# Altium integrated library TI Data Converters Analog to Digital Converter.IntLib: 2198 symbols (part 142 of 164)
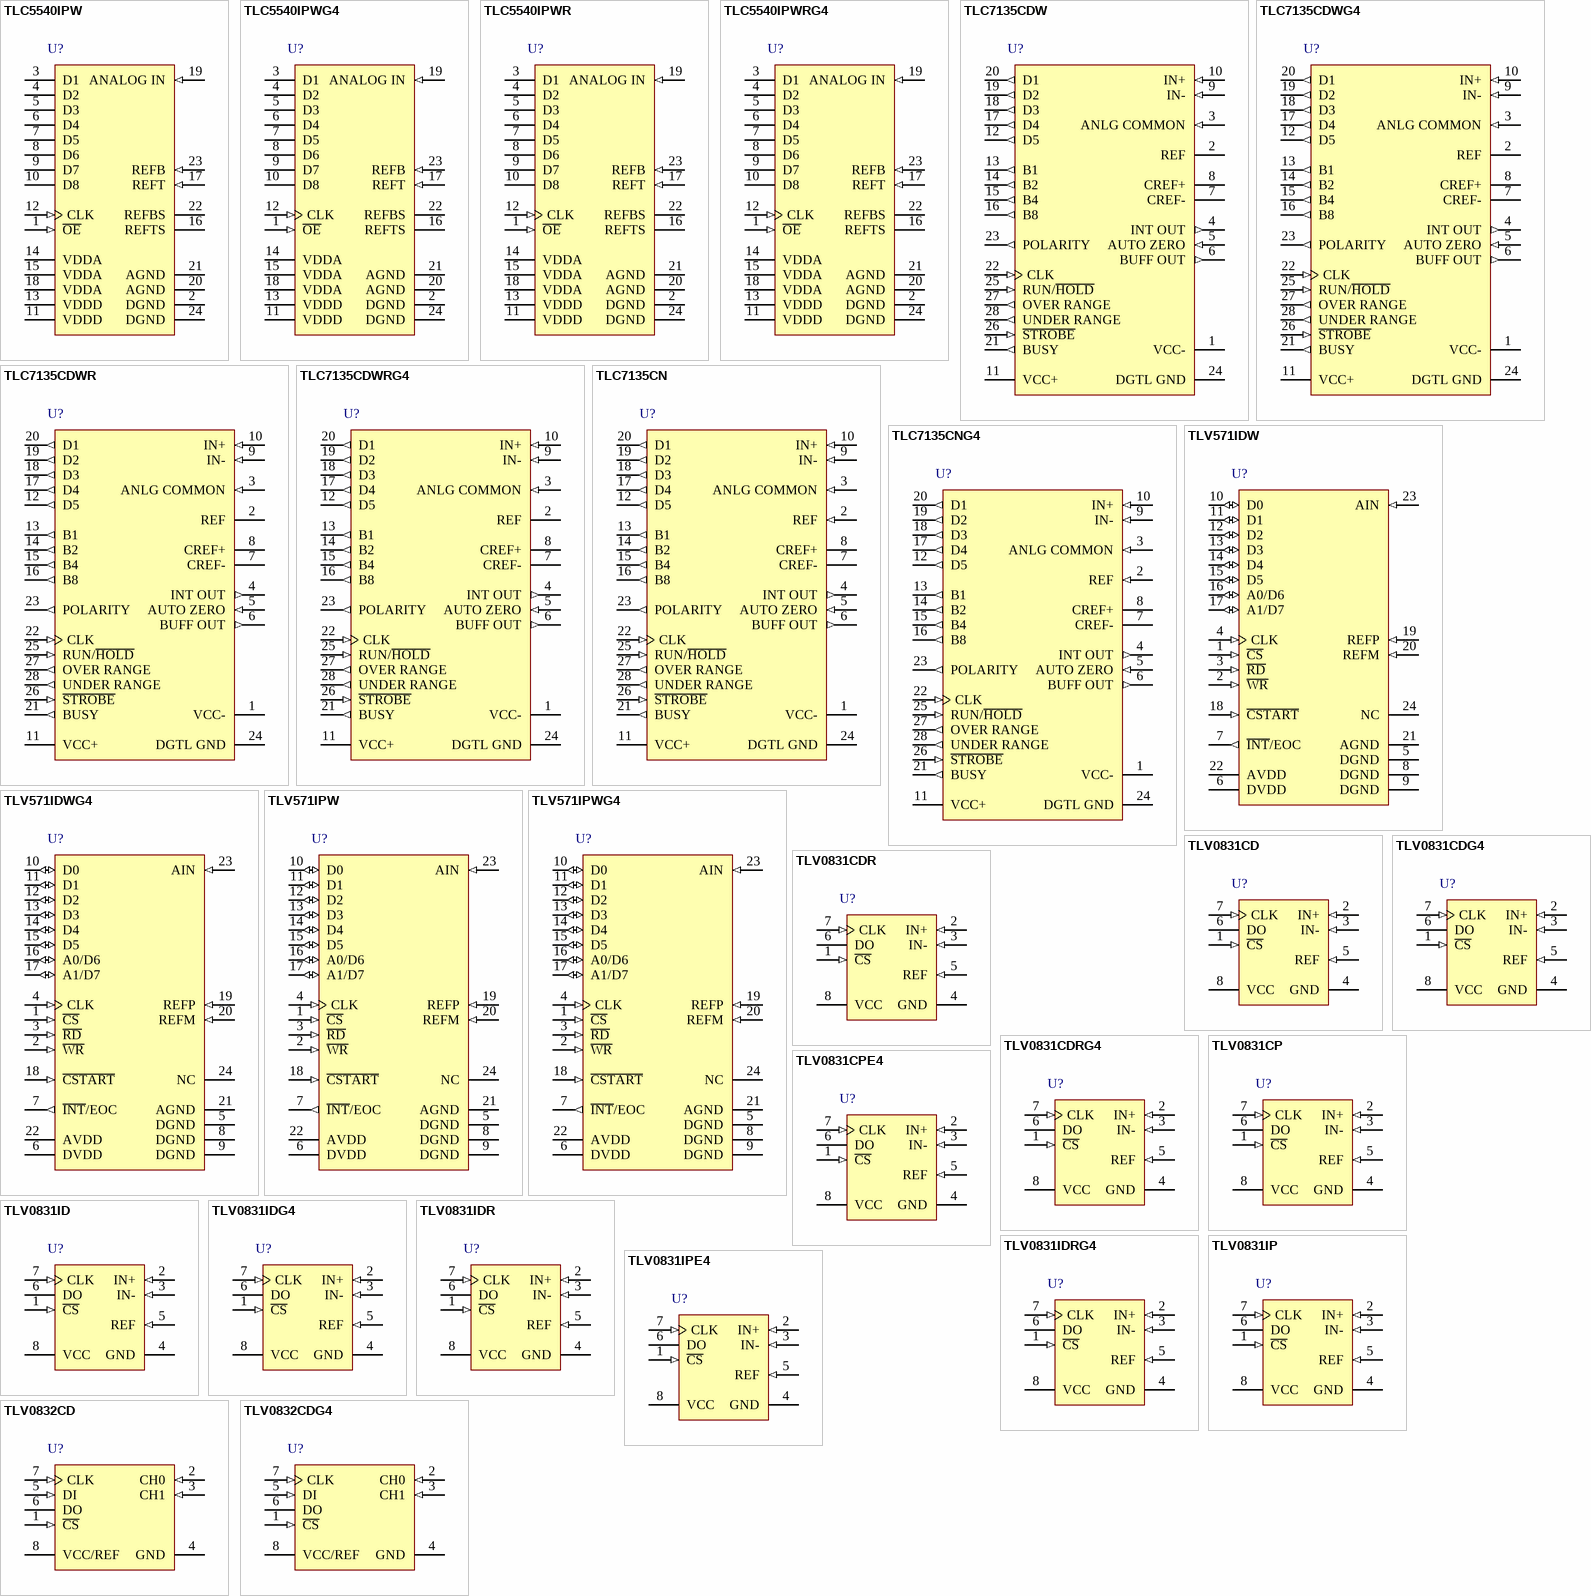
[diagram p267: symbols TLC5540IPW to TLV0832CDG4]

## TLC5540IPWG4
designator U?
8-Bit, 40 MSPS ADC Single Channel, Internal S&H, Low Power, -40 to 85 degC, 24-pin SOP (PW24), Green (RoHS & no Sb/Br); Manufacturer: Texas Instruments; PartNumber: TLC5540IPWG4; # Input Channels: 1; Analog Voltage AV/DD(Max)(V): 5.25; Analog Voltage AV/DD(Min)(V): 4.75; Architecture: Flash; ENOB(Bits): 6.8; Interface: Parallel CMOS; Resolution(Bits): 8; Sample Rate (max)(SPS): 40M; SFDR(dB): 42; SNR(dB): 44; SubFamily: High Speed ADC (>10MSPS); DatasheetVersion: SLAS105D; PackageVersion: 4040064-6/G, 02/2011; PackageReference: PW24; PackageDescription: 24-Pin Plastic Small Outline, Body 7.8 x 4.4 mm, Pitch 0.65 mm; Supplier 1: Digi-Key; Supplier Part Number 1: 296-13366-5-ND; Digital Supply(Max)(V): 5.25; Digital Supply(Min)(V): 4.75; Eco-Plan: Green (RoHS & no Sb/Br); INL(Max)(+/-LSB): 1; Mounting Technology: Surface Mount; Code_JEDEC: MO-153; ComponentLink1Description: Manufacturer URL; ComponentLink1URL: http://www.ti.com/; ComponentLink2Description: Datasheet; ComponentLink2URL: http://www.ti.com/general/docs/lit/getliterature.tsp?genericPartNumber=TLC5540&fileType=pdf; ComponentLink3Description: Package Specification; ComponentLink3URL: http://www.ti.com/litv/pdf/mpds363
footprint TI-PW24_N (SOP, 24-Leads, Body 7.8x4.4mm, Pitch 0.65mm, IPC Medium Density)
footprint TI-PW24_L (SOP, 24-Leads, Body 7.8x4.4mm, Pitch 0.65mm, IPC High Density)
footprint TI-PW24_M (SOP, 24-Leads, Body 7.8x4.4mm, Pitch 0.65mm, IPC Low Density)
pins: 1 ~{OE} (in) "Output enable. When O\E\ = low, data is enabled. When O\E\ = high, D1-D8 is in high-impedance state.", 2 DGND (power) "Digital ground", 3 D1 (hiz) "Digital data out. D1 = LSB", 4 D2 (hiz) "Digital data out.", 5 D3 (hiz) "Digital data out.", 6 D4 (hiz) "Digital data out.", 7 D5 (hiz) "Digital data out.", 8 D6 (hiz) "Digital data out.", 9 D7 (hiz) "Digital data out.", 10 D8 (hiz) "Digital data out. D8=MSB", 11 VDDD (power) "Digital supply voltage", 12 CLK (in) "Clock input", 13 VDDD (power) "Digital supply voltage", 14 VDDA (power) "Analog supply voltage", 15 VDDA (power) "Analog supply voltage", 16 REFTS "Reference voltage (top).", 17 REFT (in) "Reference voltage in top", 18 VDDA (power) "Analog supply voltage", 19 ANALOG IN (in) "Analog input", 20 AGND (power) "Analog ground", 21 AGND (power) "Analog ground", 22 REFBS "Reference voltage (bottom).", 23 REFB (in) "Reference voltage in bottom", 24 DGND (power) "Digital ground"

## TLC5540IPWR
designator U?
8-Bit, 40 MSPS ADC Single Channel, Internal S&H, Low Power, -40 to 85 degC, 24-pin SOP (PW24), Green (RoHS & no Sb/Br); Manufacturer: Texas Instruments; PartNumber: TLC5540IPWR; # Input Channels: 1; Analog Voltage AV/DD(Max)(V): 5.25; Analog Voltage AV/DD(Min)(V): 4.75; Architecture: Flash; ENOB(Bits): 6.8; Interface: Parallel CMOS; Resolution(Bits): 8; Sample Rate (max)(SPS): 40M; SFDR(dB): 42; SNR(dB): 44; SubFamily: High Speed ADC (>10MSPS); DatasheetVersion: SLAS105D; PackageVersion: 4040064-6/G, 02/2011; PackageReference: PW24; PackageDescription: 24-Pin Plastic Small Outline, Body 7.8 x 4.4 mm, Pitch 0.65 mm; Supplier 1: Digi-Key; Supplier Part Number 1: TLV2548QDWG4-ND; Digital Supply(Max)(V): 5.25; Digital Supply(Min)(V): 4.75; Eco-Plan: Green (RoHS & no Sb/Br); INL(Max)(+/-LSB): 1; Mounting Technology: Surface Mount; Code_JEDEC: MO-153; ComponentLink1Description: Manufacturer URL; ComponentLink1URL: http://www.ti.com/; ComponentLink2Description: Datasheet; ComponentLink2URL: http://www.ti.com/general/docs/lit/getliterature.tsp?genericPartNumber=TLC5540&fileType=pdf; ComponentLink3Description: Package Specification; ComponentLink3URL: http://www.ti.com/litv/pdf/mpds363
footprint TI-PW24_N (SOP, 24-Leads, Body 7.8x4.4mm, Pitch 0.65mm, IPC Medium Density)
footprint TI-PW24_L (SOP, 24-Leads, Body 7.8x4.4mm, Pitch 0.65mm, IPC High Density)
footprint TI-PW24_M (SOP, 24-Leads, Body 7.8x4.4mm, Pitch 0.65mm, IPC Low Density)
pins: 1 ~{OE} (in) "Output enable. When O\E\ = low, data is enabled. When O\E\ = high, D1-D8 is in high-impedance state.", 2 DGND (power) "Digital ground", 3 D1 (hiz) "Digital data out. D1 = LSB", 4 D2 (hiz) "Digital data out.", 5 D3 (hiz) "Digital data out.", 6 D4 (hiz) "Digital data out.", 7 D5 (hiz) "Digital data out.", 8 D6 (hiz) "Digital data out.", 9 D7 (hiz) "Digital data out.", 10 D8 (hiz) "Digital data out. D8=MSB", 11 VDDD (power) "Digital supply voltage", 12 CLK (in) "Clock input", 13 VDDD (power) "Digital supply voltage", 14 VDDA (power) "Analog supply voltage", 15 VDDA (power) "Analog supply voltage", 16 REFTS "Reference voltage (top).", 17 REFT (in) "Reference voltage in top", 18 VDDA (power) "Analog supply voltage", 19 ANALOG IN (in) "Analog input", 20 AGND (power) "Analog ground", 21 AGND (power) "Analog ground", 22 REFBS "Reference voltage (bottom).", 23 REFB (in) "Reference voltage in bottom", 24 DGND (power) "Digital ground"

## TLC5540IPWRG4
designator U?
8-Bit, 40 MSPS ADC Single Channel, Internal S&H, Low Power, -40 to 85 degC, 24-pin SOP (PW24), Green (RoHS & no Sb/Br); Manufacturer: Texas Instruments; PartNumber: TLC5540IPWRG4; # Input Channels: 1; Analog Voltage AV/DD(Max)(V): 5.25; Analog Voltage AV/DD(Min)(V): 4.75; Architecture: Flash; ENOB(Bits): 6.8; Interface: Parallel CMOS; Resolution(Bits): 8; Sample Rate (max)(SPS): 40M; SFDR(dB): 42; SNR(dB): 44; SubFamily: High Speed ADC (>10MSPS); DatasheetVersion: SLAS105D; PackageVersion: 4040064-6/G, 02/2011; PackageReference: PW24; PackageDescription: 24-Pin Plastic Small Outline, Body 7.8 x 4.4 mm, Pitch 0.65 mm; Supplier 1: Digi-Key; Supplier Part Number 1: TLV2548QDWR-ND; Digital Supply(Max)(V): 5.25; Digital Supply(Min)(V): 4.75; Eco-Plan: Green (RoHS & no Sb/Br); INL(Max)(+/-LSB): 1; Mounting Technology: Surface Mount; Code_JEDEC: MO-153; ComponentLink1Description: Manufacturer URL; ComponentLink1URL: http://www.ti.com/; ComponentLink2Description: Datasheet; ComponentLink2URL: http://www.ti.com/general/docs/lit/getliterature.tsp?genericPartNumber=TLC5540&fileType=pdf; ComponentLink3Description: Package Specification; ComponentLink3URL: http://www.ti.com/litv/pdf/mpds363
footprint TI-PW24_N (SOP, 24-Leads, Body 7.8x4.4mm, Pitch 0.65mm, IPC Medium Density)
footprint TI-PW24_L (SOP, 24-Leads, Body 7.8x4.4mm, Pitch 0.65mm, IPC High Density)
footprint TI-PW24_M (SOP, 24-Leads, Body 7.8x4.4mm, Pitch 0.65mm, IPC Low Density)
pins: 1 ~{OE} (in) "Output enable. When O\E\ = low, data is enabled. When O\E\ = high, D1-D8 is in high-impedance state.", 2 DGND (power) "Digital ground", 3 D1 (hiz) "Digital data out. D1 = LSB", 4 D2 (hiz) "Digital data out.", 5 D3 (hiz) "Digital data out.", 6 D4 (hiz) "Digital data out.", 7 D5 (hiz) "Digital data out.", 8 D6 (hiz) "Digital data out.", 9 D7 (hiz) "Digital data out.", 10 D8 (hiz) "Digital data out. D8=MSB", 11 VDDD (power) "Digital supply voltage", 12 CLK (in) "Clock input", 13 VDDD (power) "Digital supply voltage", 14 VDDA (power) "Analog supply voltage", 15 VDDA (power) "Analog supply voltage", 16 REFTS "Reference voltage (top).", 17 REFT (in) "Reference voltage in top", 18 VDDA (power) "Analog supply voltage", 19 ANALOG IN (in) "Analog input", 20 AGND (power) "Analog ground", 21 AGND (power) "Analog ground", 22 REFBS "Reference voltage (bottom).", 23 REFB (in) "Reference voltage in bottom", 24 DGND (power) "Digital ground"

## TLC7135CDW
designator U?
4 1/2-Digit, 0.003 kSPS ADC, Muxed BCD Output, True Differential Input, 1 Channel, 0 to 70 degC, 28-pin SOIC (DW28), Green (RoHS & no Sb/Br); Manufacturer: Texas Instruments; PartNumber: TLC7135CDW; # Input Channels: 1; Analog Voltage AV/DD(Max)(V): 6; Analog Voltage AV/DD(Min)(V): 4; Architecture: Dual-Slope; INL(Max)(+/-LSB): 0.5; Interface: Parallel CMOS; Resolution(Bits): 14; Sample Rate (max)(SPS): 3K; SubFamily: Low Power, 8-Bit, Dual 1.5 GSPS or Single 3.0 GSPS A/D Converter; DatasheetVersion: SLAS074D; PackageVersion: 4040000-6/G, 01/2011; PackageReference: DW28; PackageDescription: 28-Pin Plastic Small Outline, Body 17.90 x 7.50 mm, Pitch 1.27 mm; Supplier 1: Digi-Key; Supplier Part Number 1: 296-29419-2-ND; Digital Supply(Max)(V): 6; Digital Supply(Min)(V): 4; Eco-Plan: Green (RoHS & no Sb/Br); Mounting Technology: Surface Mount; Code_JEDEC: MS-013; ComponentLink1Description: Manufacturer URL; ComponentLink1URL: http://www.ti.com/; ComponentLink2Description: Datasheet; ComponentLink2URL: http://www.ti.com/general/docs/lit/getliterature.tsp?genericPartNumber=TLC7135&fileType=pdf; ComponentLink3Description: Package Specification; ComponentLink3URL: http://www.ti.com/lit/ml/mpds175a/mpds175a.pdf
footprint TI-DW28_N (SOIC, 28-Leads, Body 17.9x7.5mm, Pitch 1.27mm, IPC Medium Density)
footprint TI-DW28_L (SOIC, 28-Leads, Body 17.9x7.5mm, Pitch 1.27mm, IPC High Density)
footprint TI-DW28_M (SOIC, 28-Leads, Body 17.9x7.5mm, Pitch 1.27mm, IPC Low Density)
pins: 1 VCC- (power) "The ICL7135C and TLC7135C are designed to work with +/-5-V power supplies. However, 5-V operation is possible when the input signal does not vary more than +/-1.5 V from midsupply.", 2 REF "The reference voltage is positive with respect to analog common. The accuracy of the conversion result is dependent upon the quality of the reference. Therefore, to obtain a high accuracy conversion, a high quality reference (See Datasheet)", 3 ANLG COMMON (in) "Analog common (ANLG COMMON) is connected to the internal IN- during the auto-zero, deintegrate, and zero integrator phases. When IN- is connected to a voltage that is different from analog common during the signa(See Datasheet)", 4 INT OUT (out), 5 AUTO ZERO (in), 6 BUFF OUT (out), 7 CREF-, 8 CREF+, 9 IN- (in), 10 IN+ (in), 11 VCC+ (power) "The ICL7135C and TLC7135C are designed to work with +/-5-V power supplies. However, 5-V operation is possible when the input signal does not vary more than +/-1.5 V from midsupply.", 12 D5 (out) "Each digit-drive output (D1 through D5) sequentially goes high for 200 clock pulses. This sequential process is continuous unless an over-range occurs. When an over-range occurs, all of the digit-drive outputs are blanked (See Datasheet)", 13 B1 (out) "The BCD bits (B1, B2, B4 and B8) for a given digit are sequentially activated on these outputs. Simultaneously, the appropriate digit-drive line for the given digit is activated.", 14 B2 (out) "The BCD bits (B1, B2, B4 and B8) for a given digit are sequentially activated on these outputs. Simultaneously, the appropriate digit-drive line for the given digit is activated.", 15 B4 (out) "The BCD bits (B1, B2, B4 and B8) for a given digit are sequentially activated on these outputs. Simultaneously, the appropriate digit-drive line for the given digit is activated.", 16 B8 (out) "The BCD bits (B1, B2, B4 and B8) for a given digit are sequentially activated on these outputs. Simultaneously, the appropriate digit-drive line for the given digit is activated.", 17 D4 (out) "Each digit-drive output (D1 through D5) sequentially goes high for 200 clock pulses. This sequential process is continuous unless an over-range occurs. When an over-range occurs, all of the digit-drive outputs are blanked (See Datasheet)", 18 D3 (out) "Each digit-drive output (D1 through D5) sequentially goes high for 200 clock pulses. This sequential process is continuous unless an over-range occurs. When an over-range occurs, all of the digit-drive outputs are blanked (See Datasheet)", 19 D2 (out) "Each digit-drive output (D1 through D5) sequentially goes high for 200 clock pulses. This sequential process is continuous unless an over-range occurs. When an over-range occurs, all of the digit-drive outputs are blanked (See Datasheet)", 20 D1 (out) "Each digit-drive output (D1 through D5) sequentially goes high for 200 clock pulses. This sequential process is continuous unless an over-range occurs. When an over-range occurs, all of the digit-drive outputs are blanked (See Datasheet)", 21 BUSY (out) "The BUSY output goes high at the beginning of the signal integrate phase. BUSY remains high until the first clock pulse after zero crossing or at the end of the measurement cycle when an over-range condition occurs. It is (See Datasheet)", 22 CLK (in), 23 POLARITY (out) "The POLARITY output is high for a positive input signal and updates at the beginning of each deintegrate phase. The polarity output is valid for all inputs including +/-0 and OVER RANGE signals.", 24 DGTL GND (power) "For high-accuracy applications, ground loops must be avoided. Return currents from digital circuits must not be sent to the analog ground line.", 25 RUN/~{HOLD} (in) "When RUN/H\O\L\D\ is high or open, the device continuously performs measurement cycles every 40,002 clock pulses. When this input is taken low, the integrated circuit continues to perform the ongoing measurement cycle and (See Datasheet)", 26 ~{STROBE} (in) "Negative going pulses from this input transfer the BCD conversion data to external latches, UARTs, or microprocessors. At the end of the measurement cycle, S\T\R\O\B\E\ goes high and remains high for 201 counts. The most (See Datasheet)", 27 OVER RANGE (out) "When an over-range condition occurs, this terminal goes high after the BUSY signal goes low at the end of the measurement cycle. As previously noted, the BUSY signal remains high until the end of the measurement cycle when (See Datasheet)", 28 UNDER RANGE (out) "At the end of the BUSY signal, this terminal goes high when the conversion result is less than or equal to 9% (count of 1800) of the full-scale range. The UNDER-RANGE output is brought low at the beginning of the signal (See Datasheet)"

## TLC7135CDWG4
designator U?
4 1/2-Digit, 0.003 kSPS ADC, Muxed BCD Output, True Differential Input, 1 Channel, 0 to 70 degC, 28-pin SOIC (DW28), Green (RoHS & no Sb/Br); Manufacturer: Texas Instruments; PartNumber: TLC7135CDWG4; # Input Channels: 1; Analog Voltage AV/DD(Max)(V): 6; Analog Voltage AV/DD(Min)(V): 4; Architecture: Dual-Slope; INL(Max)(+/-LSB): 0.5; Interface: Parallel CMOS; Resolution(Bits): 14; Sample Rate (max)(SPS): 3K; SubFamily: Low Power, 8-Bit, Dual 1.5 GSPS or Single 3.0 GSPS A/D Converter; DatasheetVersion: SLAS074D; PackageVersion: 4040000-6/G, 01/2011; PackageReference: DW28; PackageDescription: 28-Pin Plastic Small Outline, Body 17.90 x 7.50 mm, Pitch 1.27 mm; Supplier 1: Digi-Key; Supplier Part Number 1: ADS1296RIZXGR-ND; Digital Supply(Max)(V): 6; Digital Supply(Min)(V): 4; Eco-Plan: Green (RoHS & no Sb/Br); Mounting Technology: Surface Mount; Code_JEDEC: MS-013; ComponentLink1Description: Manufacturer URL; ComponentLink1URL: http://www.ti.com/; ComponentLink2Description: Datasheet; ComponentLink2URL: http://www.ti.com/general/docs/lit/getliterature.tsp?genericPartNumber=TLC7135&fileType=pdf; ComponentLink3Description: Package Specification; ComponentLink3URL: http://www.ti.com/lit/ml/mpds175a/mpds175a.pdf
footprint TI-DW28_N (SOIC, 28-Leads, Body 17.9x7.5mm, Pitch 1.27mm, IPC Medium Density)
footprint TI-DW28_L (SOIC, 28-Leads, Body 17.9x7.5mm, Pitch 1.27mm, IPC High Density)
footprint TI-DW28_M (SOIC, 28-Leads, Body 17.9x7.5mm, Pitch 1.27mm, IPC Low Density)
pins: 1 VCC- (power) "The ICL7135C and TLC7135C are designed to work with +/-5-V power supplies. However, 5-V operation is possible when the input signal does not vary more than +/-1.5 V from midsupply.", 2 REF "The reference voltage is positive with respect to analog common. The accuracy of the conversion result is dependent upon the quality of the reference. Therefore, to obtain a high accuracy conversion, a high quality reference (See Datasheet)", 3 ANLG COMMON (in) "Analog common (ANLG COMMON) is connected to the internal IN- during the auto-zero, deintegrate, and zero integrator phases. When IN- is connected to a voltage that is different from analog common during the signa(See Datasheet)", 4 INT OUT (out), 5 AUTO ZERO (in), 6 BUFF OUT (out), 7 CREF-, 8 CREF+, 9 IN- (in), 10 IN+ (in), 11 VCC+ (power) "The ICL7135C and TLC7135C are designed to work with +/-5-V power supplies. However, 5-V operation is possible when the input signal does not vary more than +/-1.5 V from midsupply.", 12 D5 (out) "Each digit-drive output (D1 through D5) sequentially goes high for 200 clock pulses. This sequential process is continuous unless an over-range occurs. When an over-range occurs, all of the digit-drive outputs are blanked (See Datasheet)", 13 B1 (out) "The BCD bits (B1, B2, B4 and B8) for a given digit are sequentially activated on these outputs. Simultaneously, the appropriate digit-drive line for the given digit is activated.", 14 B2 (out) "The BCD bits (B1, B2, B4 and B8) for a given digit are sequentially activated on these outputs. Simultaneously, the appropriate digit-drive line for the given digit is activated.", 15 B4 (out) "The BCD bits (B1, B2, B4 and B8) for a given digit are sequentially activated on these outputs. Simultaneously, the appropriate digit-drive line for the given digit is activated.", 16 B8 (out) "The BCD bits (B1, B2, B4 and B8) for a given digit are sequentially activated on these outputs. Simultaneously, the appropriate digit-drive line for the given digit is activated.", 17 D4 (out) "Each digit-drive output (D1 through D5) sequentially goes high for 200 clock pulses. This sequential process is continuous unless an over-range occurs. When an over-range occurs, all of the digit-drive outputs are blanked (See Datasheet)", 18 D3 (out) "Each digit-drive output (D1 through D5) sequentially goes high for 200 clock pulses. This sequential process is continuous unless an over-range occurs. When an over-range occurs, all of the digit-drive outputs are blanked (See Datasheet)", 19 D2 (out) "Each digit-drive output (D1 through D5) sequentially goes high for 200 clock pulses. This sequential process is continuous unless an over-range occurs. When an over-range occurs, all of the digit-drive outputs are blanked (See Datasheet)", 20 D1 (out) "Each digit-drive output (D1 through D5) sequentially goes high for 200 clock pulses. This sequential process is continuous unless an over-range occurs. When an over-range occurs, all of the digit-drive outputs are blanked (See Datasheet)", 21 BUSY (out) "The BUSY output goes high at the beginning of the signal integrate phase. BUSY remains high until the first clock pulse after zero crossing or at the end of the measurement cycle when an over-range condition occurs. It is (See Datasheet)", 22 CLK (in), 23 POLARITY (out) "The POLARITY output is high for a positive input signal and updates at the beginning of each deintegrate phase. The polarity output is valid for all inputs including +/-0 and OVER RANGE signals.", 24 DGTL GND (power) "For high-accuracy applications, ground loops must be avoided. Return currents from digital circuits must not be sent to the analog ground line.", 25 RUN/~{HOLD} (in) "When RUN/H\O\L\D\ is high or open, the device continuously performs measurement cycles every 40,002 clock pulses. When this input is taken low, the integrated circuit continues to perform the ongoing measurement cycle and (See Datasheet)", 26 ~{STROBE} (in) "Negative going pulses from this input transfer the BCD conversion data to external latches, UARTs, or microprocessors. At the end of the measurement cycle, S\T\R\O\B\E\ goes high and remains high for 201 counts. The most (See Datasheet)", 27 OVER RANGE (out) "When an over-range condition occurs, this terminal goes high after the BUSY signal goes low at the end of the measurement cycle. As previously noted, the BUSY signal remains high until the end of the measurement cycle when (See Datasheet)", 28 UNDER RANGE (out) "At the end of the BUSY signal, this terminal goes high when the conversion result is less than or equal to 9% (count of 1800) of the full-scale range. The UNDER-RANGE output is brought low at the beginning of the signal (See Datasheet)"

## TLC7135CDWR
designator U?
4 1/2-Digit, 0.003 kSPS ADC, Muxed BCD Output, True Differential Input, 1 Channel, 0 to 70 degC, 28-pin SOIC (DW28), Green (RoHS & no Sb/Br); Manufacturer: Texas Instruments; PartNumber: TLC7135CDWR; # Input Channels: 1; Analog Voltage AV/DD(Max)(V): 6; Analog Voltage AV/DD(Min)(V): 4; Architecture: Dual-Slope; INL(Max)(+/-LSB): 0.5; Interface: Parallel CMOS; Resolution(Bits): 14; Sample Rate (max)(SPS): 3K; SubFamily: Low Power, 8-Bit, Dual 1.5 GSPS or Single 3.0 GSPS A/D Converter; DatasheetVersion: SLAS074D; PackageVersion: 4040000-6/G, 01/2011; PackageReference: DW28; PackageDescription: 28-Pin Plastic Small Outline, Body 17.90 x 7.50 mm, Pitch 1.27 mm; Supplier 1: Digi-Key; Supplier Part Number 1: 296-28272-2-ND; Digital Supply(Max)(V): 6; Digital Supply(Min)(V): 4; Eco-Plan: Green (RoHS & no Sb/Br); Mounting Technology: Surface Mount; Code_JEDEC: MS-013; ComponentLink1Description: Manufacturer URL; ComponentLink1URL: http://www.ti.com/; ComponentLink2Description: Datasheet; ComponentLink2URL: http://www.ti.com/general/docs/lit/getliterature.tsp?genericPartNumber=TLC7135&fileType=pdf; ComponentLink3Description: Package Specification; ComponentLink3URL: http://www.ti.com/lit/ml/mpds175a/mpds175a.pdf
footprint TI-DW28_N (SOIC, 28-Leads, Body 17.9x7.5mm, Pitch 1.27mm, IPC Medium Density)
footprint TI-DW28_L (SOIC, 28-Leads, Body 17.9x7.5mm, Pitch 1.27mm, IPC High Density)
footprint TI-DW28_M (SOIC, 28-Leads, Body 17.9x7.5mm, Pitch 1.27mm, IPC Low Density)
pins: 1 VCC- (power) "The ICL7135C and TLC7135C are designed to work with +/-5-V power supplies. However, 5-V operation is possible when the input signal does not vary more than +/-1.5 V from midsupply.", 2 REF "The reference voltage is positive with respect to analog common. The accuracy of the conversion result is dependent upon the quality of the reference. Therefore, to obtain a high accuracy conversion, a high quality reference (See Datasheet)", 3 ANLG COMMON (in) "Analog common (ANLG COMMON) is connected to the internal IN- during the auto-zero, deintegrate, and zero integrator phases. When IN- is connected to a voltage that is different from analog common during the signa(See Datasheet)", 4 INT OUT (out), 5 AUTO ZERO (in), 6 BUFF OUT (out), 7 CREF-, 8 CREF+, 9 IN- (in), 10 IN+ (in), 11 VCC+ (power) "The ICL7135C and TLC7135C are designed to work with +/-5-V power supplies. However, 5-V operation is possible when the input signal does not vary more than +/-1.5 V from midsupply.", 12 D5 (out) "Each digit-drive output (D1 through D5) sequentially goes high for 200 clock pulses. This sequential process is continuous unless an over-range occurs. When an over-range occurs, all of the digit-drive outputs are blanked (See Datasheet)", 13 B1 (out) "The BCD bits (B1, B2, B4 and B8) for a given digit are sequentially activated on these outputs. Simultaneously, the appropriate digit-drive line for the given digit is activated.", 14 B2 (out) "The BCD bits (B1, B2, B4 and B8) for a given digit are sequentially activated on these outputs. Simultaneously, the appropriate digit-drive line for the given digit is activated.", 15 B4 (out) "The BCD bits (B1, B2, B4 and B8) for a given digit are sequentially activated on these outputs. Simultaneously, the appropriate digit-drive line for the given digit is activated.", 16 B8 (out) "The BCD bits (B1, B2, B4 and B8) for a given digit are sequentially activated on these outputs. Simultaneously, the appropriate digit-drive line for the given digit is activated.", 17 D4 (out) "Each digit-drive output (D1 through D5) sequentially goes high for 200 clock pulses. This sequential process is continuous unless an over-range occurs. When an over-range occurs, all of the digit-drive outputs are blanked (See Datasheet)", 18 D3 (out) "Each digit-drive output (D1 through D5) sequentially goes high for 200 clock pulses. This sequential process is continuous unless an over-range occurs. When an over-range occurs, all of the digit-drive outputs are blanked (See Datasheet)", 19 D2 (out) "Each digit-drive output (D1 through D5) sequentially goes high for 200 clock pulses. This sequential process is continuous unless an over-range occurs. When an over-range occurs, all of the digit-drive outputs are blanked (See Datasheet)", 20 D1 (out) "Each digit-drive output (D1 through D5) sequentially goes high for 200 clock pulses. This sequential process is continuous unless an over-range occurs. When an over-range occurs, all of the digit-drive outputs are blanked (See Datasheet)", 21 BUSY (out) "The BUSY output goes high at the beginning of the signal integrate phase. BUSY remains high until the first clock pulse after zero crossing or at the end of the measurement cycle when an over-range condition occurs. It is (See Datasheet)", 22 CLK (in), 23 POLARITY (out) "The POLARITY output is high for a positive input signal and updates at the beginning of each deintegrate phase. The polarity output is valid for all inputs including +/-0 and OVER RANGE signals.", 24 DGTL GND (power) "For high-accuracy applications, ground loops must be avoided. Return currents from digital circuits must not be sent to the analog ground line.", 25 RUN/~{HOLD} (in) "When RUN/H\O\L\D\ is high or open, the device continuously performs measurement cycles every 40,002 clock pulses. When this input is taken low, the integrated circuit continues to perform the ongoing measurement cycle and (See Datasheet)", 26 ~{STROBE} (in) "Negative going pulses from this input transfer the BCD conversion data to external latches, UARTs, or microprocessors. At the end of the measurement cycle, S\T\R\O\B\E\ goes high and remains high for 201 counts. The most (See Datasheet)", 27 OVER RANGE (out) "When an over-range condition occurs, this terminal goes high after the BUSY signal goes low at the end of the measurement cycle. As previously noted, the BUSY signal remains high until the end of the measurement cycle when (See Datasheet)", 28 UNDER RANGE (out) "At the end of the BUSY signal, this terminal goes high when the conversion result is less than or equal to 9% (count of 1800) of the full-scale range. The UNDER-RANGE output is brought low at the beginning of the signal (See Datasheet)"

## TLC7135CDWRG4
designator U?
4 1/2-Digit, 0.003 kSPS ADC, Muxed BCD Output, True Differential Input, 1 Channel, 0 to 70 degC, 28-pin SOIC (DW28), Green (RoHS & no Sb/Br); Manufacturer: Texas Instruments; PartNumber: TLC7135CDWRG4; # Input Channels: 1; Analog Voltage AV/DD(Max)(V): 6; Analog Voltage AV/DD(Min)(V): 4; Architecture: Dual-Slope; INL(Max)(+/-LSB): 0.5; Interface: Parallel CMOS; Resolution(Bits): 14; Sample Rate (max)(SPS): 3K; SubFamily: Low Power, 8-Bit, Dual 1.5 GSPS or Single 3.0 GSPS A/D Converter; DatasheetVersion: SLAS074D; PackageVersion: 4040000-6/G, 01/2011; PackageReference: DW28; PackageDescription: 28-Pin Plastic Small Outline, Body 17.90 x 7.50 mm, Pitch 1.27 mm; Supplier 1: Digi-Key; Supplier Part Number 1: 296-27953-ND; Digital Supply(Max)(V): 6; Digital Supply(Min)(V): 4; Eco-Plan: Green (RoHS & no Sb/Br); Mounting Technology: Surface Mount; Code_JEDEC: MS-013; ComponentLink1Description: Manufacturer URL; ComponentLink1URL: http://www.ti.com/; ComponentLink2Description: Datasheet; ComponentLink2URL: http://www.ti.com/general/docs/lit/getliterature.tsp?genericPartNumber=TLC7135&fileType=pdf; ComponentLink3Description: Package Specification; ComponentLink3URL: http://www.ti.com/lit/ml/mpds175a/mpds175a.pdf
footprint TI-DW28_N (SOIC, 28-Leads, Body 17.9x7.5mm, Pitch 1.27mm, IPC Medium Density)
footprint TI-DW28_L (SOIC, 28-Leads, Body 17.9x7.5mm, Pitch 1.27mm, IPC High Density)
footprint TI-DW28_M (SOIC, 28-Leads, Body 17.9x7.5mm, Pitch 1.27mm, IPC Low Density)
pins: 1 VCC- (power) "The ICL7135C and TLC7135C are designed to work with +/-5-V power supplies. However, 5-V operation is possible when the input signal does not vary more than +/-1.5 V from midsupply.", 2 REF "The reference voltage is positive with respect to analog common. The accuracy of the conversion result is dependent upon the quality of the reference. Therefore, to obtain a high accuracy conversion, a high quality reference (See Datasheet)", 3 ANLG COMMON (in) "Analog common (ANLG COMMON) is connected to the internal IN- during the auto-zero, deintegrate, and zero integrator phases. When IN- is connected to a voltage that is different from analog common during the signa(See Datasheet)", 4 INT OUT (out), 5 AUTO ZERO (in), 6 BUFF OUT (out), 7 CREF-, 8 CREF+, 9 IN- (in), 10 IN+ (in), 11 VCC+ (power) "The ICL7135C and TLC7135C are designed to work with +/-5-V power supplies. However, 5-V operation is possible when the input signal does not vary more than +/-1.5 V from midsupply.", 12 D5 (out) "Each digit-drive output (D1 through D5) sequentially goes high for 200 clock pulses. This sequential process is continuous unless an over-range occurs. When an over-range occurs, all of the digit-drive outputs are blanked (See Datasheet)", 13 B1 (out) "The BCD bits (B1, B2, B4 and B8) for a given digit are sequentially activated on these outputs. Simultaneously, the appropriate digit-drive line for the given digit is activated.", 14 B2 (out) "The BCD bits (B1, B2, B4 and B8) for a given digit are sequentially activated on these outputs. Simultaneously, the appropriate digit-drive line for the given digit is activated.", 15 B4 (out) "The BCD bits (B1, B2, B4 and B8) for a given digit are sequentially activated on these outputs. Simultaneously, the appropriate digit-drive line for the given digit is activated.", 16 B8 (out) "The BCD bits (B1, B2, B4 and B8) for a given digit are sequentially activated on these outputs. Simultaneously, the appropriate digit-drive line for the given digit is activated.", 17 D4 (out) "Each digit-drive output (D1 through D5) sequentially goes high for 200 clock pulses. This sequential process is continuous unless an over-range occurs. When an over-range occurs, all of the digit-drive outputs are blanked (See Datasheet)", 18 D3 (out) "Each digit-drive output (D1 through D5) sequentially goes high for 200 clock pulses. This sequential process is continuous unless an over-range occurs. When an over-range occurs, all of the digit-drive outputs are blanked (See Datasheet)", 19 D2 (out) "Each digit-drive output (D1 through D5) sequentially goes high for 200 clock pulses. This sequential process is continuous unless an over-range occurs. When an over-range occurs, all of the digit-drive outputs are blanked (See Datasheet)", 20 D1 (out) "Each digit-drive output (D1 through D5) sequentially goes high for 200 clock pulses. This sequential process is continuous unless an over-range occurs. When an over-range occurs, all of the digit-drive outputs are blanked (See Datasheet)", 21 BUSY (out) "The BUSY output goes high at the beginning of the signal integrate phase. BUSY remains high until the first clock pulse after zero crossing or at the end of the measurement cycle when an over-range condition occurs. It is (See Datasheet)", 22 CLK (in), 23 POLARITY (out) "The POLARITY output is high for a positive input signal and updates at the beginning of each deintegrate phase. The polarity output is valid for all inputs including +/-0 and OVER RANGE signals.", 24 DGTL GND (power) "For high-accuracy applications, ground loops must be avoided. Return currents from digital circuits must not be sent to the analog ground line.", 25 RUN/~{HOLD} (in) "When RUN/H\O\L\D\ is high or open, the device continuously performs measurement cycles every 40,002 clock pulses. When this input is taken low, the integrated circuit continues to perform the ongoing measurement cycle and (See Datasheet)", 26 ~{STROBE} (in) "Negative going pulses from this input transfer the BCD conversion data to external latches, UARTs, or microprocessors. At the end of the measurement cycle, S\T\R\O\B\E\ goes high and remains high for 201 counts. The most (See Datasheet)", 27 OVER RANGE (out) "When an over-range condition occurs, this terminal goes high after the BUSY signal goes low at the end of the measurement cycle. As previously noted, the BUSY signal remains high until the end of the measurement cycle when (See Datasheet)", 28 UNDER RANGE (out) "At the end of the BUSY signal, this terminal goes high when the conversion result is less than or equal to 9% (count of 1800) of the full-scale range. The UNDER-RANGE output is brought low at the beginning of the signal (See Datasheet)"

## TLC7135CN
designator U?
4 1/2-Digit, 0.003 kSPS ADC, Muxed BCD Output, True Differential Input, 1 Channel, 0 to 70 degC, 28-pin DIP (N28), Green (RoHS & no Sb/Br); Manufacturer: Texas Instruments; PartNumber: TLC7135CN; # Input Channels: 1; Analog Voltage AV/DD(Max)(V): 6; Analog Voltage AV/DD(Min)(V): 4; Architecture: Dual-Slope; INL(Max)(+/-LSB): 0.5; Interface: Parallel CMOS; Resolution(Bits): 14; Sample Rate (max)(SPS): 3K; SubFamily: Low Power, 8-Bit, Dual 1.5 GSPS or Single 3.0 GSPS A/D Converter; DatasheetVersion: SLAS074D; PackageVersion: 4040053/B, 04/1995; PackageReference: N28; PackageDescription: 28-Pin Plastic In-Line, Body 36.32 x 13.715 mm, Pitch 2.54 mm; Supplier 1: Digi-Key; Supplier Part Number 1: ADS1196CPAGR-ND; Digital Supply(Max)(V): 6; Digital Supply(Min)(V): 4; Eco-Plan: Green (RoHS & no Sb/Br); Mounting Technology: Through Hole; Code_JEDEC: MS-011; ComponentLink1Description: Manufacturer URL; ComponentLink1URL: http://www.ti.com/; ComponentLink2Description: Datasheet; ComponentLink2URL: http://www.ti.com/general/docs/lit/getliterature.tsp?genericPartNumber=TLC7135&fileType=pdf; ComponentLink3Description: Package Specification; ComponentLink3URL: http://www.ti.com/litv/pdf/mpdi008
footprint TI-N28 (DIP, 28-Leads, Body 36.32x13.715 mm, Pitch 2.54 mm)
pins: 1 VCC- (power) "The ICL7135C and TLC7135C are designed to work with +/-5-V power supplies. However, 5-V operation is possible when the input signal does not vary more than +/-1.5 V from midsupply.", 2 REF (in) "The reference voltage is positive with respect to analog common. The accuracy of the conversion result is dependent upon the quality of the reference. Therefore, to obtain a high accuracy conversion, a high quality reference (See Datasheet)", 3 ANLG COMMON (in) "Analog common (ANLG COMMON) is connected to the internal IN- during the auto-zero, deintegrate, and zero integrator phases. When IN- is connected to a voltage that is different from analog common during the signal integrate (See Datasheet)", 4 INT OUT (out), 5 AUTO ZERO (in), 6 BUFF OUT (out), 7 CREF-, 8 CREF+, 9 IN- (in), 10 IN+ (in), 11 VCC+ (power) "The ICL7135C and TLC7135C are designed to work with +/-5-V power supplies. However, 5-V operation is possible when the input signal does not vary more than +/-1.5 V from midsupply.", 12 D5 (out) "Each digit-drive output (D1 through D5) sequentially goes high for 200 clock pulses. This sequential process is continuous unless an over-range occurs. When an over-range occurs, all of the digit-drive outputs are blanked (See Datasheet)", 13 B1 (out) "The BCD bits (B1, B2, B4 and B8) for a given digit are sequentially activated on these outputs. Simultaneously, the appropriate digit-drive line for the given digit is activated.", 14 B2 (out) "The BCD bits (B1, B2, B4 and B8) for a given digit are sequentially activated on these outputs. Simultaneously, the appropriate digit-drive line for the given digit is activated.", 15 B4 (out) "The BCD bits (B1, B2, B4 and B8) for a given digit are sequentially activated on these outputs. Simultaneously, the appropriate digit-drive line for the given digit is activated.", 16 B8 (out) "The BCD bits (B1, B2, B4 and B8) for a given digit are sequentially activated on these outputs. Simultaneously, the appropriate digit-drive line for the given digit is activated.", 17 D4 (out) "Each digit-drive output (D1 through D5) sequentially goes high for 200 clock pulses. This sequential process is continuous unless an over-range occurs. When an over-range occurs, all of the digit-drive outputs are blanked (See Datasheet)", 18 D3 (out) "Each digit-drive output (D1 through D5) sequentially goes high for 200 clock pulses. This sequential process is continuous unless an over-range occurs. When an over-range occurs, all of the digit-drive outputs are blanked (See Datasheet)", 19 D2 (out) "Each digit-drive output (D1 through D5) sequentially goes high for 200 clock pulses. This sequential process is continuous unless an over-range occurs. When an over-range occurs, all of the digit-drive outputs are blanked (See Datasheet)", 20 D1 (out) "Each digit-drive output (D1 through D5) sequentially goes high for 200 clock pulses. This sequential process is continuous unless an over-range occurs. When an over-range occurs, all of the digit-drive outputs are blanked (See Datasheet)", 21 BUSY (out) "The BUSY output goes high at the beginning of the signal integrate phase. BUSY remains high until the first clock pulse after zero crossing or at the end of the measurement cycle when an over-range condition occurs. It is (See Datasheet)", 22 CLK (in), 23 POLARITY (out) "The POLARITY output is high for a positive input signal and updates at the beginning of each deintegrate phase. The polarity output is valid for all inputs including +/-0 and OVER RANGE signals.", 24 DGTL GND (power) "For high-accuracy applications, ground loops must be avoided. Return currents from digital circuits must not be sent to the analog ground line.", 25 RUN/~{HOLD} (in) "When RUN/H\O\L\D\ is high or open, the device continuously performs measurement cycles every 40,002 clock pulses. When this input is taken low, the integrated circuit continues to perform the ongoing measurement cycle and (See Datasheet)", 26 ~{STROBE} (in) "Negative going pulses from this input transfer the BCD conversion data to external latches, UARTs, or microprocessors. At the end of the measurement cycle, S\T\R\O\B\E\ goes high and remains high for 201 counts. The most (See Datasheet)", 27 OVER RANGE (out) "When an over-range condition occurs, this terminal goes high after the BUSY signal goes low at the end of the measurement cycle. As previously noted, the BUSY signal remains high until the end of the measurement cycle when (See Datasheet)", 28 UNDER RANGE (out) "At the end of the BUSY signal, this terminal goes high when the conversion result is less than or equal to 9% (count of 1800) of the full-scale range. The UNDER-RANGE output is brought low at the beginning of the signal (See Datasheet)"

## TLC7135CNG4
designator U?
4 1/2-Digit, 0.003 kSPS ADC, Muxed BCD Output, True Differential Input, 1 Channel, 0 to 70 degC, 28-pin DIP (N28), Green (RoHS & no Sb/Br); Manufacturer: Texas Instruments; PartNumber: TLC7135CNG4; # Input Channels: 1; Analog Voltage AV/DD(Max)(V): 6; Analog Voltage AV/DD(Min)(V): 4; Architecture: Dual-Slope; INL(Max)(+/-LSB): 0.5; Interface: Parallel CMOS; Resolution(Bits): 14; Sample Rate (max)(SPS): 3K; SubFamily: Low Power, 8-Bit, Dual 1.5 GSPS or Single 3.0 GSPS A/D Converter; DatasheetVersion: SLAS074D; PackageVersion: 4040053/B, 04/1995; PackageReference: N28; PackageDescription: 28-Pin Plastic In-Line, Body 36.32 x 13.715 mm, Pitch 2.54 mm; Supplier 1: Digi-Key; Supplier Part Number 1: ADS1196CZXGR-ND; Digital Supply(Max)(V): 6; Digital Supply(Min)(V): 4; Eco-Plan: Green (RoHS & no Sb/Br); Mounting Technology: Through Hole; Code_JEDEC: MS-011; ComponentLink1Description: Manufacturer URL; ComponentLink1URL: http://www.ti.com/; ComponentLink2Description: Datasheet; ComponentLink2URL: http://www.ti.com/general/docs/lit/getliterature.tsp?genericPartNumber=TLC7135&fileType=pdf; ComponentLink3Description: Package Specification; ComponentLink3URL: http://www.ti.com/litv/pdf/mpdi008
footprint TI-N28 (DIP, 28-Leads, Body 36.32x13.715 mm, Pitch 2.54 mm)
pins: 1 VCC- (power) "The ICL7135C and TLC7135C are designed to work with +/-5-V power supplies. However, 5-V operation is possible when the input signal does not vary more than +/-1.5 V from midsupply.", 2 REF (in) "The reference voltage is positive with respect to analog common. The accuracy of the conversion result is dependent upon the quality of the reference. Therefore, to obtain a high accuracy conversion, a high quality reference (See Datasheet)", 3 ANLG COMMON (in) "Analog common (ANLG COMMON) is connected to the internal IN- during the auto-zero, deintegrate, and zero integrator phases. When IN- is connected to a voltage that is different from analog common during the signal integrate (See Datasheet)", 4 INT OUT (out), 5 AUTO ZERO (in), 6 BUFF OUT (out), 7 CREF-, 8 CREF+, 9 IN- (in), 10 IN+ (in), 11 VCC+ (power) "The ICL7135C and TLC7135C are designed to work with +/-5-V power supplies. However, 5-V operation is possible when the input signal does not vary more than +/-1.5 V from midsupply.", 12 D5 (out) "Each digit-drive output (D1 through D5) sequentially goes high for 200 clock pulses. This sequential process is continuous unless an over-range occurs. When an over-range occurs, all of the digit-drive outputs are blanked (See Datasheet)", 13 B1 (out) "The BCD bits (B1, B2, B4 and B8) for a given digit are sequentially activated on these outputs. Simultaneously, the appropriate digit-drive line for the given digit is activated.", 14 B2 (out) "The BCD bits (B1, B2, B4 and B8) for a given digit are sequentially activated on these outputs. Simultaneously, the appropriate digit-drive line for the given digit is activated.", 15 B4 (out) "The BCD bits (B1, B2, B4 and B8) for a given digit are sequentially activated on these outputs. Simultaneously, the appropriate digit-drive line for the given digit is activated.", 16 B8 (out) "The BCD bits (B1, B2, B4 and B8) for a given digit are sequentially activated on these outputs. Simultaneously, the appropriate digit-drive line for the given digit is activated.", 17 D4 (out) "Each digit-drive output (D1 through D5) sequentially goes high for 200 clock pulses. This sequential process is continuous unless an over-range occurs. When an over-range occurs, all of the digit-drive outputs are blanked (See Datasheet)", 18 D3 (out) "Each digit-drive output (D1 through D5) sequentially goes high for 200 clock pulses. This sequential process is continuous unless an over-range occurs. When an over-range occurs, all of the digit-drive outputs are blanked (See Datasheet)", 19 D2 (out) "Each digit-drive output (D1 through D5) sequentially goes high for 200 clock pulses. This sequential process is continuous unless an over-range occurs. When an over-range occurs, all of the digit-drive outputs are blanked (See Datasheet)", 20 D1 (out) "Each digit-drive output (D1 through D5) sequentially goes high for 200 clock pulses. This sequential process is continuous unless an over-range occurs. When an over-range occurs, all of the digit-drive outputs are blanked (See Datasheet)", 21 BUSY (out) "The BUSY output goes high at the beginning of the signal integrate phase. BUSY remains high until the first clock pulse after zero crossing or at the end of the measurement cycle when an over-range condition occurs. It is (See Datasheet)", 22 CLK (in), 23 POLARITY (out) "The POLARITY output is high for a positive input signal and updates at the beginning of each deintegrate phase. The polarity output is valid for all inputs including +/-0 and OVER RANGE signals.", 24 DGTL GND (power) "For high-accuracy applications, ground loops must be avoided. Return currents from digital circuits must not be sent to the analog ground line.", 25 RUN/~{HOLD} (in) "When RUN/H\O\L\D\ is high or open, the device continuously performs measurement cycles every 40,002 clock pulses. When this input is taken low, the integrated circuit continues to perform the ongoing measurement cycle and (See Datasheet)", 26 ~{STROBE} (in) "Negative going pulses from this input transfer the BCD conversion data to external latches, UARTs, or microprocessors. At the end of the measurement cycle, S\T\R\O\B\E\ goes high and remains high for 201 counts. The most (See Datasheet)", 27 OVER RANGE (out) "When an over-range condition occurs, this terminal goes high after the BUSY signal goes low at the end of the measurement cycle. As previously noted, the BUSY signal remains high until the end of the measurement cycle when (See Datasheet)", 28 UNDER RANGE (out) "At the end of the BUSY signal, this terminal goes high when the conversion result is less than or equal to 9% (count of 1800) of the full-scale range. The UNDER-RANGE output is brought low at the beginning of the signal (See Datasheet)"

## TLV571IDW
designator U?
8-Bit, 1.25 MSPS Single Channel ADC, Hardware Configurable, Low Power with Auto or Software Power Down, -40 to 85 degC, 24-pin SOIC (DW24), Green (RoHS & no Sb/Br); Manufacturer: Texas Instruments; PartNumber: TLV571IDW; # Input Channels: 1; Analog Voltage AV/DD(Max)(V): 5.5; Analog Voltage AV/DD(Min)(V): 2.7; Architecture: SAR; INL(Max)(+/-LSB): 0.5; Interface: Parallel CMOS; Resolution(Bits): 8; Sample Rate (max)(SPS): 1.25M; SFDR(dB): 65; SINAD(dB): 49; SubFamily: Precision ADC (<=10MSPS); DatasheetVersion: SLAS239A; PackageVersion: 4040000-5/G, 01/2011; PackageReference: DW24; PackageDescription: 24-Pin Plastic Small Outline, Body 15.4 x 7.5 mm, Pitch 1.27 mm; Supplier 1: Digi-Key; Supplier Part Number 1: 296-28071-2-ND; Digital Supply(Max)(V): 5.5; Digital Supply(Min)(V): 2.7; Eco-Plan: Green (RoHS & no Sb/Br); SNR(dB): 49; Mounting Technology: Surface Mount; Code_JEDEC: MS-013; ComponentLink1Description: Manufacturer URL; ComponentLink1URL: http://www.ti.com/; ComponentLink2Description: Datasheet; ComponentLink2URL: http://www.ti.com/general/docs/lit/getliterature.tsp?genericPartNumber=TLV571&fileType=pdf; ComponentLink3Description: Package Specification; ComponentLink3URL: http://www.ti.com/litv/pdf/mpds174a
footprint TI-DW24_N (SOIC, 24-Leads, Body 15.4x7.5mm, Pitch 1.27mm, IPC Medium Density)
footprint TI-DW24_L (SOIC, 24-Leads, Body 15.4x7.5mm, Pitch 1.27mm, IPC High Density)
footprint TI-DW24_M (SOIC, 24-Leads, Body 15.4x7.5mm, Pitch 1.27mm, IPC Low Density)
pins: 1 ~{CS} (in) "Chip select. A logic low on C\S\ enables the TLV571.", 2 ~{WR} (in) "Write data. A rising edge on the W\R\ latches in configuration data when C\S\ is low. When using software conversion start, a rising edge on W\R\ also initiates an internal sampling start pulse. When W\R\ is tied to ground, (See Datasheet)", 3 ~{RD} (in) "Read data. A falling edge on R\D\ enables a read operation on the data bus when C\S\ is low.", 4 CLK (in) "External clock input", 5 DGND (power) "Digital ground", 6 DVDD (power) "Digital supply voltage, 2.7 V to 5.5 V", 7 ~{INT}/EOC (out) "End-of-conversion/interrupt", 8 DGND (power) "Digital ground", 9 DGND (power) "Digital ground", 10 D0 (io) "Bidirectional 3-state data bus", 11 D1 (io) "Bidirectional 3-state data bus", 12 D2 (io) "Bidirectional 3-state data bus", 13 D3 (io) "Bidirectional 3-state data bus", 14 D4 (io) "Bidirectional 3-state data bus", 15 D5 (io) "Bidirectional 3-state data bus", 16 A0/D6 (io) "Bidirectional 3-state data bus. D6/A0 along with D7/A1 is used as address lines to access CR0 and CR1 for initialization.", 17 A1/D7 (io) "Bidirectional 3-state data bus. D7/A1 along with D6/A0 is used as address lines to access CR0 and CR1 for initialization.", 18 ~{CSTART} (in) "Hardware sample and conversion start input. The falling edge of C\S\T\A\R\T\ starts sampling and the rising edge of C\S\T\A\R\T\ starts conversion.", 19 REFP (in) "Upper reference voltage (nominally AVDD). The maximum input voltage range is determined by the difference between the voltage applied to REFP and REFM.", 20 REFM (in) "Lower reference voltage (nominally ground). REFM must be supplied or REFM pin must be grounded.", 21 AGND (power) "Analog ground", 22 AVDD (power) "Analog supply voltage, 2.7 V to 5.5 V", 23 AIN (in) "ADC analog input", 24 NC "Not connected"